# EAGLE library part AD8418 (library Semiconductors > Integrated Circuits - ICs > Amplifier ICs > Current Sense Amplifiers)
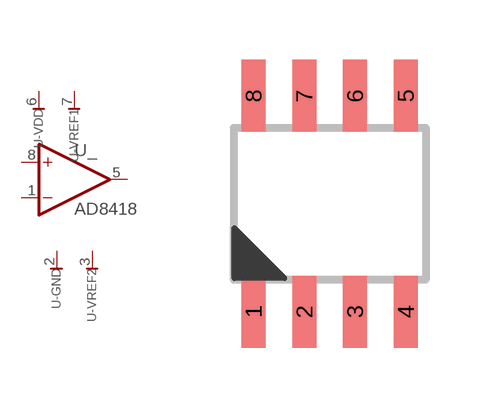
[diagram p0: symbol with the pads of SOIC8; footprint SOIC8]

Designator prefix U; gates _=AD8418 -GND=POW -VREF2=POW -VDD=POW -VREF1=POW

## AD8418  [SOIC8]
1  _:IN-
2  -GND:P$1
3  -VREF2:P$1
5  _:O
6  -VDD:P$1
7  -VREF1:P$1
8  _:IN+

## Footprint SOIC8 (pad centres in mm)
Small Outline IC
smd 0.6 x 1.8: 1 -1.905,-2.7; 2 -0.635,-2.7; 3 0.635,-2.7; 4 1.905,-2.7; 5 1.905,2.7; 6 0.635,2.7; 7 -0.635,2.7; 8 -1.905,2.7